# EAGLE library part PM6N-* (library prolightopto)
RGB Power LED Proeon Type Source: http://www.prolightopto.com/upload/DS-0102_1W_PM6B-1LFx_v2.2.pdf http://www.prolightopto.com/upload/DS-0103_3W_PM6B-3LFx_v2.2.pdf
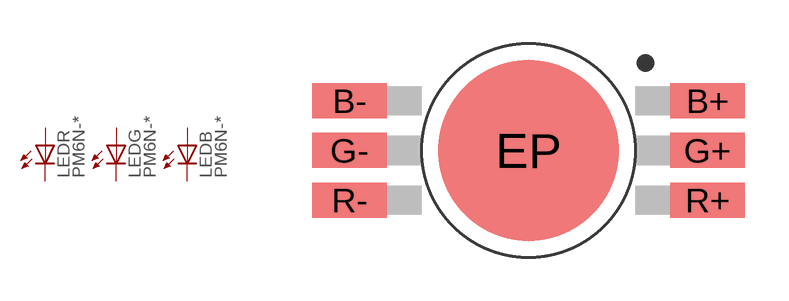
[diagram p3: symbol with the pads of PM6B; footprint PM6B]

Designator prefix LED; gates G=LED B=LED R=LED

## PM6N-1LFE, PM6N-3LFE  [PM6B]
B+  B:A  pas
B-  B:C  pas
G+  G:A  pas
G-  G:C  pas
R+  R:A  pas
R-  R:C  pas

## Footprint PM6B (pad centres in mm)
smd 2.55 x 1.2: B+ 6.125,1.7; B- -6.125,1.7; G+ 6.125,0; G- -6.125,0; R+ 6.125,-1.7; R- -6.125,-1.7
smd 6.2 x 6.2: EP 0,0